# EAGLE library part RN42XV (library maxstream)
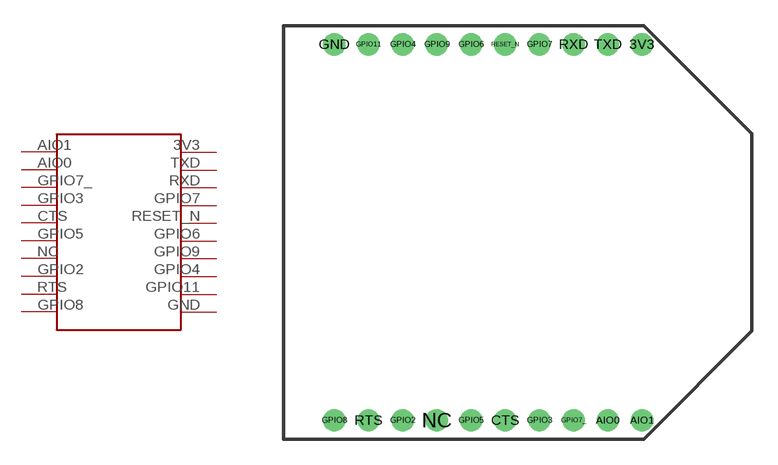
[diagram p1: symbol with the pads of RN42XV; footprint RN42XV]

Designator prefix IC

## RN42XV  [RN42XV]
3V3  3V3
AIO0  AIO0
AIO1  AIO1
CTS  CTS
GND  GND
GPIO2  GPIO2
GPIO3  GPIO3
GPIO4  GPIO4
GPIO5  GPIO5
GPIO6  GPIO6
GPIO7  GPIO7
GPIO7_  GPIO7_
GPIO8  GPIO8
GPIO9  GPIO9
GPIO11  GPIO11
NC  N/C
RESET_N  RESET_N
RTS  RTS
RXD  RXD
TXD  TXD

## Footprint RN42XV (pad centres in mm)
drill 0.8 pad 1.27: 3V3 3.92,17.985; AIO0 1.92,-4.015; AIO1 3.92,-4.015; CTS -4.08,-4.015; GND -14.08,17.985; GPIO2 -10.08,-4.015; GPIO3 -2.08,-4.015; GPIO4 -10.08,17.985; GPIO5 -6.08,-4.015; GPIO6 -6.08,17.985; GPIO7 -2.08,17.985; GPIO7_ -0.08,-4.015; GPIO8 -14.08,-4.015; GPIO9 -8.08,17.985; GPIO11 -12.08,17.985; NC -8.08,-4.015; RESET_N -4.08,17.985; RTS -12.08,-4.015; RXD -0.08,17.985; TXD 1.92,17.985